# EAGLE library part MC1496BPG (library ON Semiconductor_By_element14_Batch_1)
Balanced Modulators /Demodulators
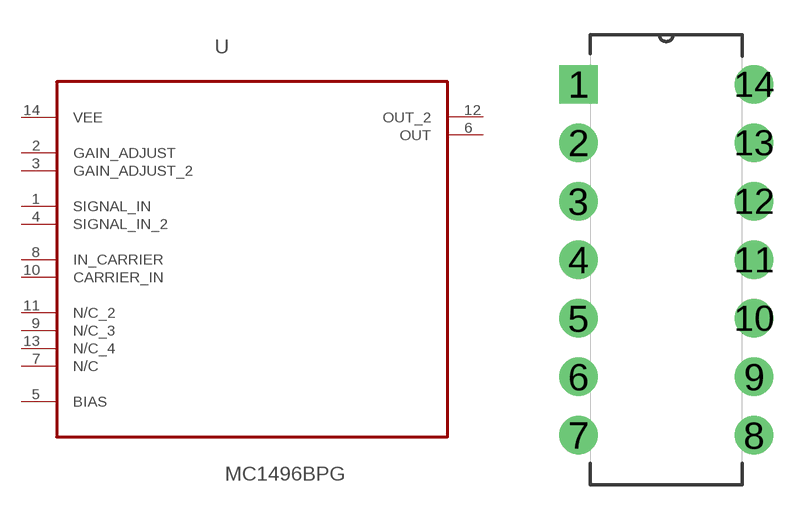
[diagram p315: symbol with the pads of DIP254P762X469-14; footprint DIP254P762X469-14]

Designator prefix U

## MC1496BPG (MPN: MC1496BPG; OC_FARNELL: 1125967; OC_NEWARK: 26K3981; P1I: o; PACKAGE: PDIP-14; SUPPLIER: ON SEMICONDUCTOR)  [DIP254P762X469-14]
1  SIGNAL_IN  in
2  GAIN_ADJUST  in
3  GAIN_ADJUST_2  in
4  SIGNAL_IN_2  in
5  BIAS  pas
6  OUT  out
7  N/C  nc
8  IN_CARRIER  in
9  N/C_3  in
10  CARRIER_IN  in
11  N/C_2  nc
12  OUT_2  out
13  N/C_4  nc
14  VEE  pwr

## Footprint DIP254P762X469-14 (pad centres in mm)
drill 1.118 square: 1 -7.62,15.24
drill 1.118: 2 -7.62,12.7; 3 -7.62,10.16; 4 -7.62,7.62; 5 -7.62,5.08; 6 -7.62,2.54; 7 -7.62,0; 8 0,0; 9 0,2.54; 10 0,5.08; 11 0,7.62; 12 0,10.16; 13 0,12.7; 14 0,15.24